# Altium schematic symbol library DDC112_Components.SchLib: 24 symbols
Pins are listed as number, name and electrical type; pins without a type are passive.

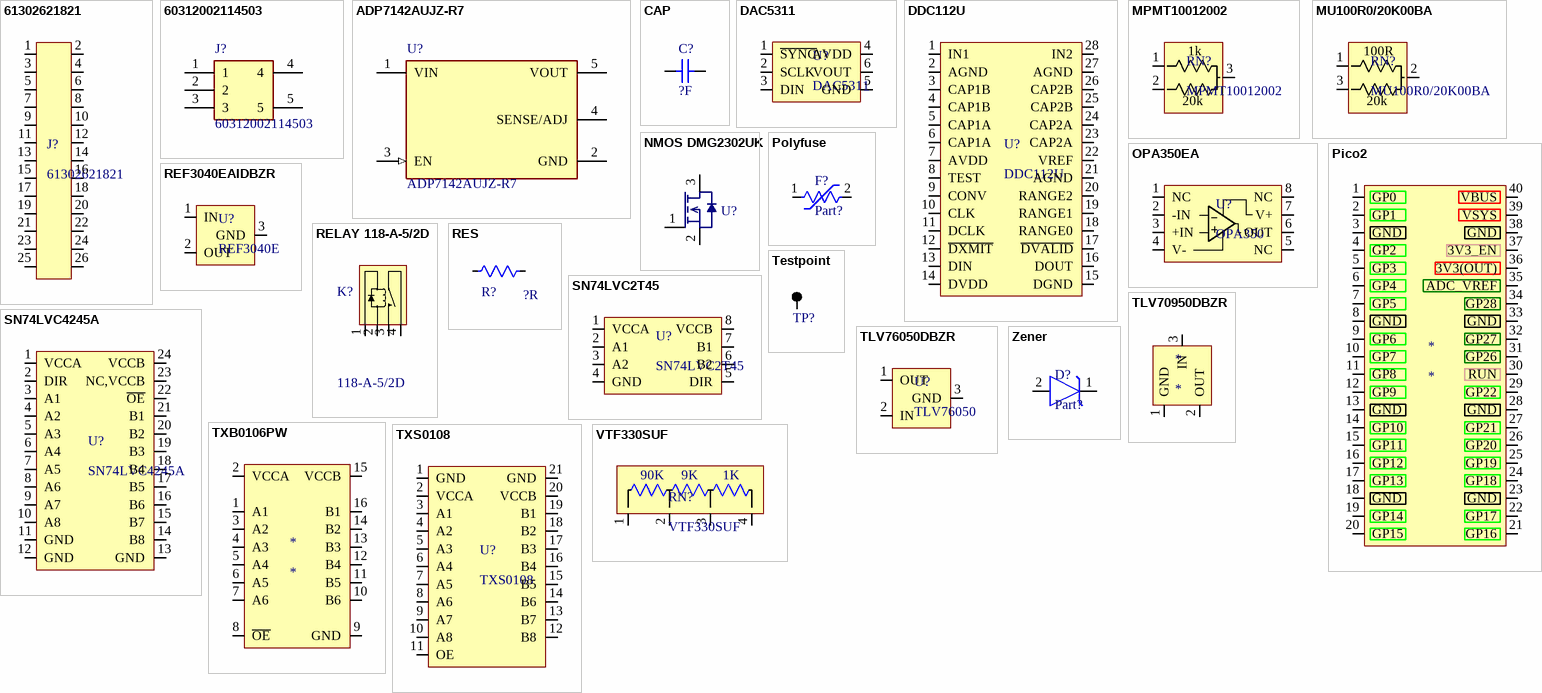
[diagram p0: symbols 61302621821 to Zener]

## 61302621821
designator J?
Wurth Elektronik dual socket header 26 pos 0.1in pitch THT; MF: Wurth Elektronik; MP: 61302621821
footprint 61302621821 (Wurth Elektronik 26-Position Dual Socket Header 0.1in Pitch THT)
pins: 1, 2, 3, 4, 5, 6, 7, 8, 9, 10, 11, 12, 13, 14, 15, 16, 17, 18, 19, 20, 21, 22, 23, 24, 25, 26

## 60312002114503
designator J?
Coaxial, SMA Female Jack, 50 Ohm, Through-Hole; MF: Wurth Elektronik; Datasheet Link: https://katalog.we-online.de/em/datasheet/60312002114503.pdf; Height: 9.56mm; MP: 60312002114503; Mouser Part Number: 710-60312002114503; Mouser Price/Stock: https://www.mouser.co.uk/ProductDetail/Wurth-Elektronik/60312002114503?qs=3jNSNtuqJTL%2FGpZA1FAOxw%3D%3D
footprint COAX SMA THT (50Ohm, 18GHz max, female jack, Wurth Elektronik 60312002114503)
pins: 1, 2, 3, 4, 5

## ADP7142AUJZ-R7
designator U?
1.2-40V 200mA Low Noise CMOS LDO Adjustable Linear Regulator TSOT23; Manufacturer: Analog Devices; Nominal Supply Current: 50-180uA; Output Type: AdjustableProgrammable; Max Supply Voltage: 40V; Number Of Outputs: 1; Dropout Voltage: 200mV; Output Voltage: 1.2-5V; Min Supply Voltage: 2.7V; Max Junction Temp: +150°C; Accuracy Percentage: 0.8%; Ambient Temperature Range Low: -40°C; ComponentLink2Description: Datasheet; Digikey Description: IC REG LIN POS ADJ 200MA TSOT23; Device Class L1: Integrated Circuits (ICs); Mouser Description: LDO Regulator Pos 1.5V to 5V 0.2A 5-Pin TSOT-23 T/R; Height: 1mm; Temperature Range Low: -40°C; Output Current: 200mA; Device Class L3: Voltage Regulators - Linear; Octopart: https://octopart.com/adp7142aujz-r7-analog+devices-38928114; Category: IC; Manufacturer Part Number: ADP7142AUJZ-R7; ComponentLink2URL: https://www.analog.com/media/en/technical-documentation/data-sheets/ADP7142.pdf; Device Class L2: Power Management ICs; Package: UJ-5; Automotive: No; Lead Free: Yes; Ambient Temperature Range High: +125°C; Temperature: -40°C to +125°C; Temperature Range High: +125°C; RoHS: TRUE
footprint SOT23-5 HIGH DENSITY AD (FP-UJ-5-IPC_C)
pins: 1 VIN (power), 2 GND (power), 3 EN (in), 4 SENSE/ADJ, 5 VOUT

## CAP
designator C?, comment ?F
Cap, Nonpolar, Any, Must choose footprint manually
pins: 1, 2

## DAC5311
designator U?
DAC 8bit 1 channel SPI Supply Reference Buffered Voltage; MF: Texas Instruments; MP: DAC5311IDCKR
footprint SOT363-6 MID DENSITY TI (Reference Document: DCK0006A)
pins: 1 ~{SYNC}, 2 SCLK, 3 DIN, 4 AVDD, 5 GND, 6 VOUT

## DDC112U
designator U?
Dual Current Input 20-Bit ADC 28SOIC
pins: 1 IN1, 2 AGND, 3 CAP1B, 4 CAP1B, 5 CAP1A, 6 CAP1A, 7 AVDD, 8 TEST, 9 CONV, 10 CLK, 11 DCLK, 12 ~{DXMIT}, 13 DIN, 14 DVDD, 15 DGND, 16 DOUT, 17 ~{DVALID}, 18 RANGE0, 19 RANGE1, 20 RANGE2, 21 AGND, 22 VREF, 23 CAP2A, 24 CAP2A, 25 CAP2B, 26 CAP2B, 27 AGND, 28 IN2

## MPMT10012002
designator RN?
Vishay MPMT10012002 - Res Divider 1kR 20kR, absolute 0.1% 25ppm/C. ratio 0.05% 2ppm/C, SOT23-3; MF: Vishay Dale; MP: MPMT10012002AT1
footprint SOT23-3 MID DENSITY VISHAY
pins: 1, 2, 3
text: 1k; 20k

## MU100R0/20K00BA
designator RN?
VPG MU100R0/20K00BA - Res Divider 100R 20kR, absolute 0.1% 5ppm/C. ratop 0.05% 5ppm/C, 1210 J-lead; MF: VPG Foil Resistors; MP: MU100R0/20K00BA
footprint RES NETWORK MOLDED J-LEAD VPG (Pin numbering is unconventional. See the VPG MU series datasheet.)
pins: 1, 2, 3
text: 100R; 20k

## NMOS DMG2302UK
designator U?, comment DMG2302UK  (value not drawn)
DIODES INC. Power MOSFET, N Channel, 20 V, 2.8 A, 0.061 ohm, SOT-23, Surface Mount; MP: DMG2302UK-7; ComponentLink1URL: http://www.farnell.com/datasheets/2814387.pdf?src-supplier=Farnell; ComponentLink1Description: http://www.farnell.com/datasheets/2814387.pdf?src-supplier=Farnell; ComponentLink2URL: http://www.farnell.com/datasheets/2814387.pdf?src-supplier=Element14; ComponentLink2Description: http://www.farnell.com/datasheets/2814387.pdf?src-supplier=Element14; ComponentLink3URL: https://www.diodes.com/assets/Datasheets/DMG2302UK.pdf?src-supplier=Digi-Key; ComponentLink3Description: https://www.diodes.com/assets/Datasheets/DMG2302UK.pdf?src-supplier=Digi-Key; ComponentLink4URL: http://www.farnell.com/datasheets/2814387.pdf?src-supplier=Newark; ComponentLink4Description: http://www.farnell.com/datasheets/2814387.pdf?src-supplier=Newark; MF: Diodes
footprint SOT90-3 LOW DENSITY (SOT90P240X110-3M)
pins: 1 Gate, 2 Source, 3 Drain

## OPA350EA
designator U?, comment OPA350
High-Speed Single-Supply Rail-to-Rail Op Amp, MicroAmplifier Series, 8VSSOP; MF: Texas Instruments; MP: OPA350EA/2K5
footprint 8VSSOP LOW DENSITY TI
pins: 1 NC, 2 -IN, 3 +IN, 4 V-, 5 NC, 6 OUT, 7 V+, 8 NC

## Pico2
designator *
Raspberry Pi RP2350 Board 40DIP
pins: 1 GP0, 2 GP1, 3 GND, 4 GP2, 5 GP3, 6 GP4, 7 GP5, 8 GND, 9 GP6, 10 GP7, 11 GP8, 12 GP9, 13 GND, 14 GP10, 15 GP11, 16 GP12, 17 GP13, 18 GND, 19 GP14, 20 GP15, 21 GP16, 22 GP17, 23 GND, 24 GP18, 25 GP19, 26 GP20, 27 GP21, 28 GND, 29 GP22, 30 RUN, 31 GP26, 32 GP27, 33 GND, 34 GP28, 35 ADC_VREF, 36 3V3(OUT), 37 3V3_EN, 38 GND, 39 VSYS, 40 VBUS

## Polyfuse
designator F?, comment Part?
PTC RESETTABLE FUSE
pins: 1, 2

## REF3040EAIDBZR
designator U?, comment REF3040E
Low-Drift Low-Power Series Voltage Reference 4.096V SOT23-3; MF: Texas Instruments; MP: REF3040EAIDBZR
footprint SOT23-3 MID DENSITY TI (Reference document: DBZ0003A)
pins: 1 IN, 2 OUT, 3 GND

## RELAY 118-A-5/2D
designator K?, comment 118-A-5/2D
High coil resistance SIL/SIP Reed Relay 118-A-5/2D; MF: Pickering; MP: 118-1-A-5/2D
footprint 118-A-5/2D
pins: 1, 2, 3, 4

## RES
designator R?, comment ?R
Res, Any, Manually select footprint
pins: 1, 2
1 alternate drawing of the same symbol

## SN74LVC2T45
designator U?
Dual-Bit Dual-Supply Bus Transceiver With Configurable Voltage Translation 8VSSOP; MF: Texas Instruments; MP: SN74LVC2T45DCUR
footprint 8VSSOP LOW DENSITY TI
pins: 1 VCCA, 2 A1, 3 A2, 4 GND, 5 DIR, 6 B2, 7 B1, 8 VCCB

## SN74LVC4245A
designator U?
Octal Bus Transceiver and 3.3V to 5V Shifter with Tri-State Outputs 24TSSOP; MF: Texas Instruments; MP: SN74LVC4245APWR
footprint 24TSSOP LOW DENSITY TI (Reference document: PW0024A)
pins: 1 VCCA, 2 DIR, 3 A1, 4 A2, 5 A3, 6 A4, 7 A5, 8 A6, 9 A7, 10 A8, 11 GND, 12 GND, 13 GND, 14 B8, 15 B7, 16 B6, 17 B5, 18 B4, 19 B3, 20 B2, 21 B1, 22 ~{OE}, 23 NC,VCCB, 24 VCCB

## Testpoint
designator TP?  (value not drawn)  (no BOM)
pins: 1

## TLV70950DBZR
designator *
5V 150mA output, 30V input Fixed Output Linear-Voltage Regulator, SOT23-3; MF: Texas Instruments; MP: TLV70950DBZR
footprint SOT23-3 MID DENSITY TI (Reference document: DBZ0003A)
pins: 1 GND, 2 OUT, 3 IN

## TLV76050DBZR
designator U?, comment TLV76050
5V 100mA output, 30V input Fixed Output Linear-Voltage Regulator, SOT23-3; MF: Texas Instruments; MP: TLV76050DBZR
footprint SOT23-3 MID DENSITY TI (Reference document: DBZ0003A)
pins: 1 OUT, 2 IN, 3 GND

## TXB0106PW
designator *
8-Bit Bi-Directional, Level-Shifting Voltage Translator. 16TSSOP
pins: 1 A1, 2 VCCA, 3 A2, 4 A3, 5 A4, 6 A5, 7 A6, 8 ~{OE}, 9 GND, 10 B6, 11 B5, 12 B4, 13 B3, 14 B2, 15 VCCB, 16 B1

## TXS0108
designator U?
8-BitBi-Directional, Level-Shifting, Voltage Translator for Open-Drain and Push-Pull Applications 20VQFN/21DIP
pins: 1 GND, 2 VCCA, 3 A1, 4 A2, 5 A3, 6 A4, 7 A5, 8 A6, 9 A7, 10 A8, 11 OE, 12 B8, 13 B7, 14 B6, 15 B5, 16 B4, 17 B3, 18 B2, 19 B1, 20 VCCB, 21 GND

## VTF330SUF
designator RN?
Vishay VTF330SUF - Res network 1k 9k 90k 0.1% 10ppm/C THT 4-SIP; MF: Vishay Dale; MP: VTF330SUF
pins: 1, 2, 3, 4
text: 90K; 9K; 1K

## Zener
designator D?, comment Part?
DIODE ZENER
pins: 1 Cathode, 2 Anode